# Altium footprint library SOIC16(ADM2687E).PcbLib: 3 footprints
Each footprint in its own frame and in the unit in brackets; x right, y up, seen from the top. Pads: shape width x height; smd on the part's side, far side on the other; paste and mask are expansions set on the pad; w line width, h text height; cw(c..) or ccw(c..) is an arc to the next point about the centre after c.
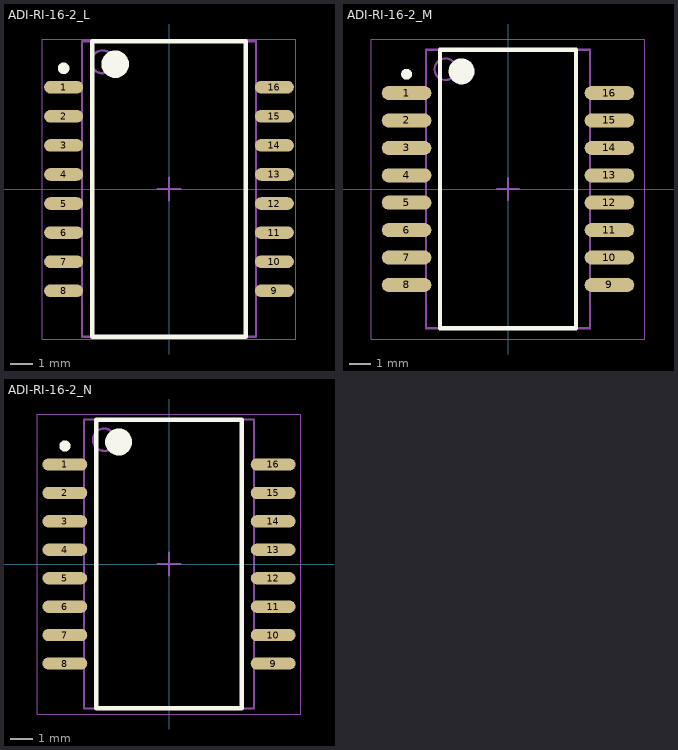
[diagram p0: the footprints below, top view; thin cyan lines are the x and y axes]

## ADI-RI-16-2_L [mm] "ADI-RI-16-2_L"
pads (16):
  oval 1.7x0.55 smd: 1(-4.6,4.445) 2(-4.6,3.175) 3(-4.6,1.905) 4(-4.6,0.635) 5(-4.6,-0.635) 6(-4.6,-1.905) 7(-4.6,-3.175) 8(-4.6,-4.445) 9(4.6,-4.445) 10(4.6,-3.175) 11(4.6,-1.905) 12(4.6,-0.635) 13(4.6,0.635) 14(4.6,1.905) 15(4.6,3.175) 16(4.6,4.445)
Top Overlay:
  circle w0.25: c-4.6,5.27 r0.125
  circle w0.6: c-2.35,5.45 r0.3
  lines w0.2: -3.35,-6.45 -3.35,6.45 3.35,6.45 3.35,-6.45 -3.35,-6.45
Mechanical 13:
  circle w0.1: c-2.9,5.55 r0.5
  lines w0.1: -3.8,-6.45 -3.8,6.45 3.8,6.45 3.8,-6.45 -3.8,-6.45
Mechanical 15:
  lines w0.05: -5.525,-6.55 -5.525,6.55 5.525,6.55 5.525,-6.55 -5.525,-6.55
  lines w0.1: -0.5,0 0.5,0 ; 0,-0.5 0,0.5
3D body: height 2.64, standoff 0.1, extent -3.8,-6.45 3.8,6.45

## ADI-RI-16-2_M [mm] "ADI-RI-16-2_M"
pads (16):
  oval 2.3x0.65 smd: 1(-4.7,4.445) 2(-4.7,3.175) 3(-4.7,1.905) 4(-4.7,0.635) 5(-4.7,-0.635) 6(-4.7,-1.905) 7(-4.7,-3.175) 8(-4.7,-4.445) 9(4.7,-4.445) 10(4.7,-3.175) 11(4.7,-1.905) 12(4.7,-0.635) 13(4.7,0.635) 14(4.7,1.905) 15(4.7,3.175) 16(4.7,4.445)
Top Overlay:
  circle w0.25: c-4.7,5.32 r0.125
  circle w0.6: c-2.15,5.45 r0.3
  lines w0.2: -3.15,-6.45 -3.15,6.45 3.15,6.45 3.15,-6.45 -3.15,-6.45
Mechanical 13:
  circle w0.1: c-2.9,5.55 r0.5
  lines w0.1: -3.8,-6.45 -3.8,6.45 3.8,6.45 3.8,-6.45 -3.8,-6.45
Mechanical 15:
  lines w0.05: -6.325,-6.95 -6.325,6.95 6.325,6.95 6.325,-6.95 -6.325,-6.95
  lines w0.1: -0.5,0 0.5,0 ; 0,-0.5 0,0.5
3D body: height 2.64, standoff 0.1, extent -3.8,-6.45 3.8,6.45

## ADI-RI-16-2_N [mm] "ADI-RI-16-2_N"
pads (16):
  oval 2x0.55 smd: 1(-4.65,4.445) 2(-4.65,3.175) 3(-4.65,1.905) 4(-4.65,0.635) 5(-4.65,-0.635) 6(-4.65,-1.905) 7(-4.65,-3.175) 8(-4.65,-4.445) 9(4.65,-4.445) 10(4.65,-3.175) 11(4.65,-1.905) 12(4.65,-0.635) 13(4.65,0.635) 14(4.65,1.905) 15(4.65,3.175) 16(4.65,4.445)
Top Overlay:
  circle w0.6: c-2.25,5.45 r0.3
  circle w0.25: c-4.65,5.27 r0.125
  lines w0.2: -3.25,-6.45 3.25,-6.45 3.25,6.45 -3.25,6.45 -3.25,-6.45
Mechanical 13:
  circle w0.1: c-2.9,5.55 r0.5
  lines w0.1: -3.8,-6.45 3.8,-6.45 3.8,6.45 -3.8,6.45 -3.8,-6.45
Mechanical 15:
  lines w0.05: -5.875,-6.7 5.875,-6.7 5.875,6.7 -5.875,6.7 -5.875,-6.7
  lines w0.1: -0.5,0 0.5,0 ; 0,-0.5 0,0.5
3D body: height 2.64, standoff 0.1, extent -3.8,-6.45 3.8,6.45